# EAGLE library part 61800929321 (library Wuerth_Elektronik_eiCan_D-SUB_Connectors)
WR-DSUB Female PCB Connector with Hex Screw, 9 Pins
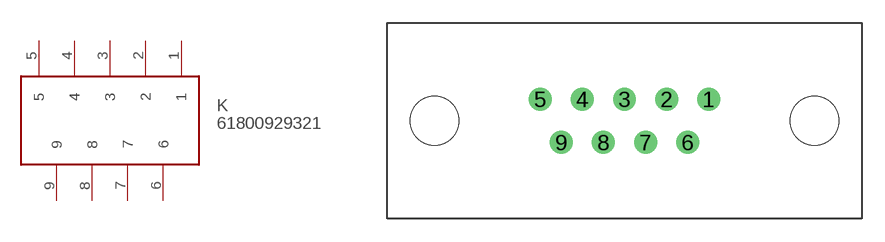
[diagram p12: symbol with the pads of 61800929321; footprint 61800929321]

Designator prefix K

## 61800929321  [61800929321]
1  1
2  2
3  3
4  4
5  5
6  6
7  7
8  8
9  9

## Footprint 61800929321 (pad centres in mm)
WR-DSUB Female PCB Connector with Hex Screw, 9 Pins
drill 1: 1 5.54,1.42; 2 2.77,1.42; 3 0,1.42; 4 -2.77,1.42; 5 -5.54,1.42; 6 4.155,-1.42; 7 1.385,-1.42; 8 -1.385,-1.42; 9 -4.155,-1.42
hole 3.2 at -12.495,0
hole 3.2 at 12.495,0